# Altium footprint library SW-SMD_KH-3635-CAJ.PcbLib: 1 footprints
Each footprint in its own frame and in the unit in brackets; x right, y up, seen from the top. Pads: shape width x height; smd on the part's side, far side on the other; paste and mask are expansions set on the pad; w line width, h text height; cw(c..) or ccw(c..) is an arc to the next point about the centre after c.
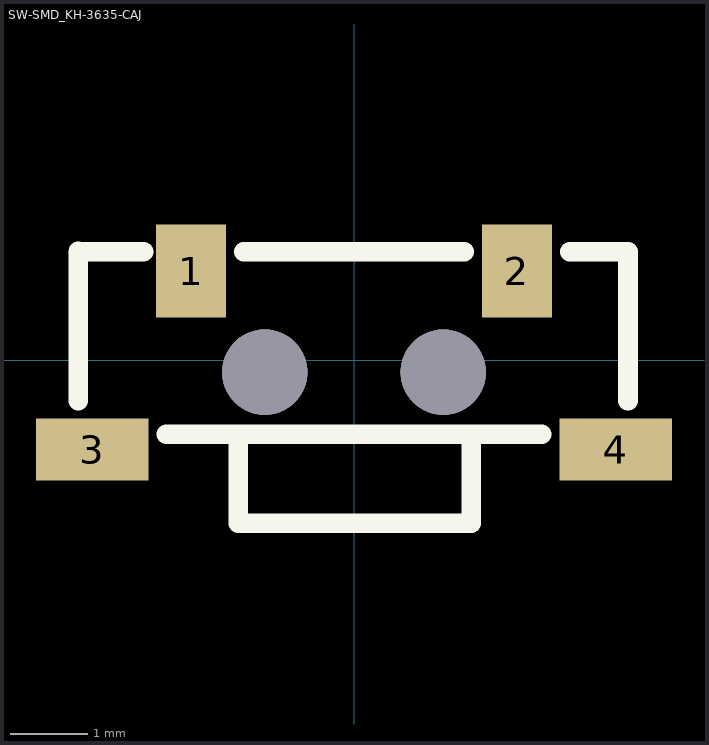
[diagram p0: the footprint, top view; thin cyan lines are the x and y axes]

## SW-SMD_KH-3635-CAJ [mm]
pads (6):
  rect 0.9x1.2 smd: 1(-2.1,1.15) 2(2.1,1.15)
  rect 1.45x0.8 smd: 3(-3.375,-1.15) 4(3.375,-1.15)
  round 1.1 hole 1.1 unplated: ""(-1.15,-0.15) ""(1.15,-0.15)
Top Overlay:
  lines w0.254: -3.554,-0.519 -3.554,1.402 ; -2.781,1.4 -3.54,1.4 -2.711,1.4 ; -2.419,-0.95 2.419,-0.95 ; -1.49,-0.95 -1.49,-2.1 1.51,-2.1 1.51,-0.95 ; -1.419,1.4 1.419,1.4 ; 2.781,1.4 3.53,1.4 ; 3.53,-0.519 3.53,1.392